# Altium schematic symbol library ADPL_Project.SCHLIB: 18 symbols
Pins are listed as number, name and electrical type; pins without a type are passive.

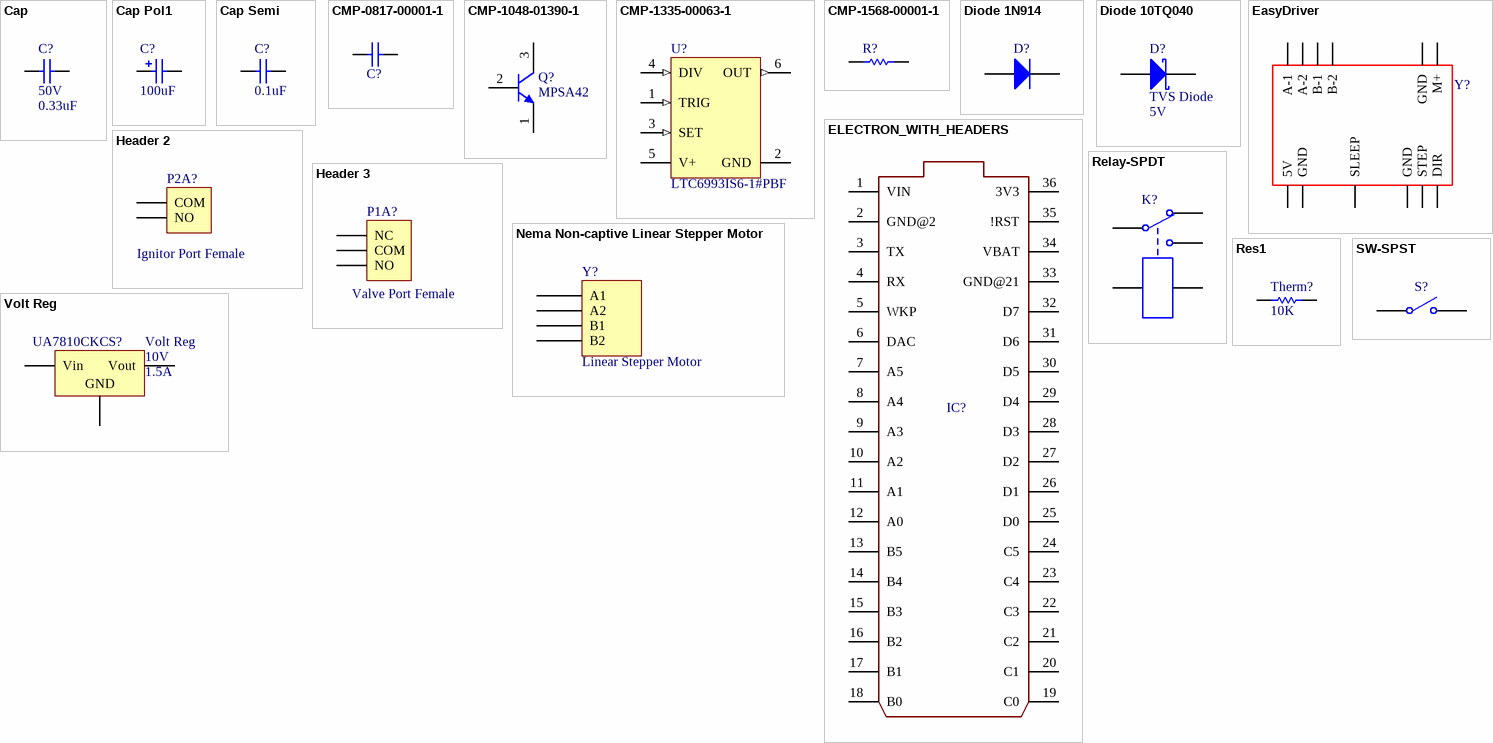
[diagram p0: symbols Cap to Volt Reg]

## Cap
designator C?, comment 50V  value 0.33uF
Capacitor; Published: 8-Jun-2000; LatestRevisionDate: 17-Jul-2002; LatestRevisionNote: Re-released for DXP Platform.; PackageReference: RAD-0.3; Publisher: Altium Limited; PackageDescription: Radial Cap, Thru-Hole; 2 Leads; 0.3 in Pin Spacing
footprint RAD-0.3 (Radial Cap, Thru-Hole; 2 Leads; 0.3 in Pin Spacing)
simulation model CAP (Capacitor)
signal-integrity model Cap
pins: 1, 2

## Cap Pol1
designator C?, comment value 100uF  (hidden comment: Cap)
Polarized Capacitor (Radial); Voltage Rating: 25V; Published: 8-Jun-2000; LatestRevisionDate: 17-Jul-2002; LatestRevisionNote: Re-released for DXP Platform.; PackageReference: RB7.6-15; Publisher: Altium Limited; PackageDescription: Polarized Capacitor (Radial); 2 Leads
footprint RB7.6-15 (Polarized Capacitor (Radial); 2 Leads)
simulation model CAP (Capacitor)
signal-integrity model Cap Pol
pins: 1, 2
1 alternate drawing of the same symbol

## Cap Semi
designator C?, comment value 0.1uF  (hidden comment: Cap)
Capacitor (Semiconductor SIM Model); Part#: 581-SA111E104MAR; Voltage Rating: 100V; Published: 8-Jun-2000; LatestRevisionDate: 29-May-2009; LatestRevisionNote: IPC-7351 Footprint Added.; PackageReference: C1206; Publisher: Altium Limited; PackageDescription: Chip Capacitor
footprint C1206 (Chip Capacitor, Body 3.2x1.6mm, IPC High Density)
footprint 0402 (Chip Capacitor, Body 1.0x0.5mm, IPC High Density)
footprint C2512 (Chip Capacitor, Body 2.54x1.27mm, IPC High Density)
footprint 1608[0603] (Chip Capacitor, Body 1.6x0.8mm, IPC High Density)
footprint C1210 (Chip Capacitor, Body 3.2x2.5mm, IPC High Density)
simulation model CAP (Semiconductor Capacitor)
signal-integrity model Cap Semi
pins: 1, 2

## CMP-0817-00001-1
designator C?, comment GRM55DR73A104KW01L  (value not drawn)
Chip Monolithic Ceramic Capacitor, General Purpose Product, 0.1 uF, 1000 V, +/- 10%, -55 to 125 degC, 5.7 x 5.0 x 2.0 mm SMD, Tape; Manufacturer: Murata; Rated Voltage: 1000 V; Capacitance Tolerance: +/- 10%; Capacitance: 0.1uF; Packaging: Tape; Height Dimension: 2.0 mm; PartNumber: GRM55DR73A104KW01L; PackageVersion: Sep-13; DatasheetVersion: Sep-13; ComponentLink1URL: http://www.murata.com/; ComponentLink3URL: http://www.murata.com/products/catalog/pdf/c02e.pdf; PackageDescription: Chip Capacitor, Body 5.7 x 5.0 mm, Height 2.0 mm; ComponentLink2Description: Datasheet; ComponentLink2URL: http://www.murata.com/products/catalog/pdf/c02e.pdf; PackageReference: MURA-GRM-55D; ComponentLink3Description: Package Specification; ComponentLink1Description: Manufacturer URL; Operating Temperature Range: -55 to 125 degC; Mounting Technology: Surface Mount; Chip Dimensions (L x W): 5.7 x 5.0 mm
footprint MURA-GRM-55D_V (Chip Capacitor, Body 5.7x5.0mm, Height 2.0mm, Reflow)
pins: 1, 2

## CMP-1048-01390-1
designator Q?, comment MPSA42
High Voltage Transistor, NPN Silicon, 3-Pin TO-92, Bulk Box; Manufacturer: On Semiconductor; fT Min (MHz): 50; Note1: 0; IC Continuous (A): 0.5; ComponentLink3Description: Package Specification; PackageReference: TO-92-3-29-11_AM_SL; Packing: Bulk Box; ComponentLink1URL: http://www.onsemi.com/; PackageDescription: 3-Pin Transistor Outline, Body 4.825 x 3.685 mm, Pitch 1.27 mm; Mounting Technology: Through Hole; RoHS: FALSE; DatasheetVersion: Rev. 8; PackageVersion: Rev. AM; ComponentLink2Description: Datasheet; ComponentLink1Description: Manufacturer URL; ComponentLink2URL: http://www.onsemi.cn/pub_link/Collateral/MPSA42-D.PDF; ComponentLink3URL: http://www.onsemi.cn/pub_link/Collateral/2N6426-D.PDF; Polarity: NPN; PartNumber: MPSA42
footprint ONSC-TO-92-3-29-11 (TO, 3-Leads, Body Dia 4.7mm, Pitch 1.27mm)
pins: 1 E, 2 B, 3 C

## CMP-1335-00063-1
designator U?, comment LTC6993IS6-1#PBF
TimerBlox: Monostable Pulse Generator (One Shot), 2.25 to 5.5 V, -40 to 85 degC, 6-Pin TSOT-23 (S6), RoHS; Manufacturer: Linear Technology; RSET: 800 KOhm Max.; VSET: 0.97 to 1.03 V; tWIDTH: 5 ns Typ.; Mounting Technology: Surface Mount; ComponentLink2URL: http://cds.linear.com/docs/en/datasheet/69931234fb.pdf; ComponentLink1URL: http://www.linear.com/; RoHS: TRUE; PartNumber: LTC6993IS6-1#PBF; Temperature Range: -40 to 85 degC; ComponentLink3Description: Package Specification; DatasheetVersion: Rev. B; PackageDescription: 6-Pin Small Out-Line Transistor, Body 2.9 x 1.625 mm, Pitch 0.95 mm; ComponentLink2Description: Datasheet; V+: 2.25 to 5.5 V; PackageVersion: Jun-10; ComponentLink3URL: http://cds.linear.com/docs/en/packaging/SOT_6_05-08-1636.pdf; ComponentLink1Description: Manufacturer URL
footprint LT-S6-6-TSOT-23_M (SOT23, 6-Leads, Body 2.90x1.63mm, Pitch 0.95mm, IPC Low Density)
footprint LT-S6-6-TSOT-23_L (SOT23, 6-Leads, Body 2.90x1.63mm, Pitch 0.95mm, IPC High Density)
footprint LT-S6-6-TSOT-23_N (SOT23, 6-Leads, Body 2.90x1.63mm, Pitch 0.95mm, IPC Medium Density)
pins: 1 TRIG (in) "Trigger Input. Depending on the version, a rising orfalling edge on TRIGwill initiate the output pulse.", 2 GND (power) "Ground. Tie to a lowinductance ground plane for best performance.", 3 SET (in) "Pulse Width Setting Input. The voltage on the SET pin (VSET) is regulated to 1V above GND. The amount of current sourced from the SET pin (ISET) programs the master oscillator frequency", 4 DIV (in) "Programmable Divider and Polarity Input. The DIV pin voltage (VDIV) is internally converted into a 4-bit result (DIVCODE). VDIV may be generated by a resistor divider between V+ and GND. Use 1% resistors to ensure an accurate result. The DIV pin and resi", 5 V+ (power) "SupplyVoltage (2.25Vto 5.5V). This supply should be kept free from noise and ripple. It should be bypassed directly to the GND pin with a 0.1uF capacitor.", 6 OUT (out) "Output. The OUT pin swings from GND to V+ with an output resistance of approximately 30Ohm. When driving an LED or other low impedance load a series output resistor should be used to limit source/sink current to 20mA."

## CMP-1568-00001-1
designator R?, comment RC0805JR-071KL  (value not drawn)
RES SMD 1K OHM 5% 1/8W 0805; PartNumber: RC0805FR-074K7L; Packing: Tape and Reel; Power: 0.125 W; PackageDescription: 2-Pin Surface Mount Device, Body 2 x 1.25 mm; Tolerance: ±5%; ComponentLink2URL: http://www.yageo.com/documents/recent/PYu-RC_Group_51_RoHS_L-3.pdf; Temperature Min: -55 degC; Mounting Technology: Surface Mount; ComponentLink1URL: http://www.yageo.com/NewPortal/_en/index.jsp; Resistance: 1k; Temperature Max: 155 degC; ComponentLink2Description: Datasheet; DatasheetVersion: Rev. 3; RoHS: TRUE; ComponentLink1Description: Manufacturer URL
footprint YAGO-RC0805_M (Chip Resistor, 2-Leads, Body 2.00x1.25mm, IPC Low Density)
footprint YAGO-RC0805_N (Chip Resistor, 2-Leads, Body 2.00x1.25mm, IPC Medium Density)
footprint YAGO-RC0805_L (Chip Resistor, 2-Leads, Body 2.00x1.25mm, IPC High Density)
pins: 1, 2

## Diode 1N914
designator D?, comment 1N914  (value not drawn)
High Conductance Fast Diode; Published: 8-Jun-2000; LatestRevisionDate: 17-Jul-2002; LatestRevisionNote: Re-released for DXP Platform.; DatasheetVersion: 1997; PackageReference: DO-35; Publisher: Altium Limited; PackageDescription: Diode, Axial; Body 3.8 x 1.9 mm (LxDia. max), Lead Dia. 0.53 mm (max); Code_JEDEC: DO-204-AH; ComponentLink1Description: Manufacturer Link; ComponentLink1URL: http://www.fairchildsemi.com/; ComponentLink2Description: Datasheet; ComponentLink2URL: http://www.fairchildsemi.com/ds/1N%2F1N4448.pdf
footprint DO-35 (Diode, Axial; Body 3.8 x 1.9 mm (LxDia. max), Lead Dia. 0.53 mm (max))
simulation model 1N914 (DIODE)
signal-integrity model 1N914
pins: 1 A, 2 K

## Diode 10TQ040
designator D?, comment TVS Diode  Working Voltage: 5V
TVS Diode - Birectional; Part#: SA5.0CA; Note: Terminal 2 is the TAB and is electrically connected to the cathode; Clamping voltage: 9.6V; Published: 8-Jun-2000; LatestRevisionDate: 17-Jul-2002; LatestRevisionNote: Re-released for DXP Platform.; DatasheetVersion: PD-2.057B; PackageVersion: Feb-1998; PackageReference: TO-220AC; Publisher: Altium Limited; PackageDescription: TO, Thru-Hole, Vertical, Heatsink Mounted; 3 In-Line Leads (1 Absent); Pitch 2.54 mm; ComponentLink1Description: Manufacturer Link; ComponentLink1URL: http://www.irf.com/
footprint TO-220AC (TO, Thru-Hole, Vertical, Heatsink Mounted; 3 In-Line Leads (1 Absent); Pitch 2.54 mm)
simulation model 10TQ040 (DIODE)
pins: 1 K, 3 A

## EasyDriver
designator Y?, comment 105990027  (value not drawn)
EASY DRIVER STEPPER MOTOR DRIVER; Manufacturer: Seeed Technology Co.; Expanded Description: A3967 - Power Management, Motor Control, Stepper Evaluation Board; Mounting Technology: Header; PartNumber: 105990027; DigiKey Part #: 1597-1403-ND
pins: ?1 GND, ?2 STEP, ?3 DIR, ?4 SLEEP, ?5 5V, ?6 GND, ?7 M+, ?8 GND, ?9 A-1, ?10 A-2, ?11 B-1, ?12 B-2

## ELECTRON_WITH_HEADERS
designator IC?, comment Particle Electron  (value not drawn)
footprint ELECTRON
pins: 1 VIN (power), 2 GND@2 (power), 3 TX, 4 RX, 5 WKP, 6 DAC, 7 A5, 8 A4, 9 A3, 10 A2, 11 A1, 12 A0, 13 B5, 14 B4, 15 B3, 16 B2, 17 B1, 18 B0, 19 C0, 20 C1, 21 C2, 22 C3, 23 C4, 24 C5, 25 D0, 26 D1, 27 D2, 28 D3, 29 D4, 30 D5, 31 D6, 32 D7, 33 GND@21 (power), 34 VBAT (power), 35 !RST, 36 3V3 (power)

## Header 2
designator P2A?, comment Ignitor Port Female
Header, 2-Pin; Aaron's Comment: 1.5V, 280-320mA; LatestRevisionDate: 17-Jul-2002; LatestRevisionNote: Re-released for DXP Platform.; Publisher: Altium Limited
signal-integrity model Connector
pins: 1 COM, 2 NO

## Header 3
designator P1A?, comment Valve Port Female
Header, 3-Pin; Part#: CWX-15Q, CR-02; LatestRevisionDate: 17-Jul-2002; LatestRevisionNote: Re-released for DXP Platform.; Publisher: Altium Limited
signal-integrity model Connector
pins: 1 NC, 2 COM, 3 NO

## Nema Non-captive Linear Stepper Motor
designator Y?, comment Linear Stepper Motor
This is a linear stepper motor which named Nema 23 Non-captive linear actuator, it was composed of 56mm 2A Nema 23 stepper motor and 150mm length Tr11x2 linear screw.; Part Number: 23LS22-2004N-150T; Rated Current: 2.0A; 24-36V: Recommended Voltage; ComponentLink1Description: Manufacturer URL; ComponentLink2URL: http://industrial.panasonic.com/www-data/pdf/AEA5000/AEA5000CE4.pdf; ComponentLink2Description: Datasheet; ComponentLink1URL: http://www.omc-stepperonline.com/nema-23-noncaptive-linear-stepper-motor-56mm-body-150mm-lead-screw-t11-x-2-p-150.html
pins: A1, A2, B1, B2

## Relay-SPDT
designator K?  (value not drawn)
Single-Pole Dual-Throw Relay; Part Number: SRD12SLA; Contact Capacity: 10A; Inductive Load: 5A; Published: 24-Mar-1999; LatestRevisionDate: 17-Jul-2002; LatestRevisionNote: Re-released for DXP Platform.; PackageReference: MODULE5B; Publisher: Altium Limited
simulation model SPDTRELAY (Spice Subcircuit)
pins: 1, 2, 3, 4, 5

## Res1
designator Therm?  value 10K  (hidden comment: Res1)
Resistor; Part#: Dwyer I2-1B062; Published: 8-Jun-2000; LatestRevisionDate: 17-Jul-2002; LatestRevisionNote: Re-released for DXP Platform.; PackageReference: AXIAL-0.3; Publisher: Altium Limited; PackageDescription: Axial Device, Thru-Hole; 2 Leads; 0.3 in Pin Spacing
footprint AXIAL-0.3 (Axial Device, Thru-Hole; 2 Leads; 0.3 in Pin Spacing)
simulation model RESISTOR (Resistor)
signal-integrity model Res
pins: 1, 2

## SW-SPST
designator S?  (value not drawn)
Single-Pole, Single-Throw Switch; Published: 24-Mar-1999; LatestRevisionDate: 17-Jul-2002; LatestRevisionNote: Re-released for DXP Platform.; PackageReference: SPST-2; Publisher: Altium Limited; PackageDescription: Switch; 2 Leads
footprint SPST-2 (Switch; 2 Leads)
pins: 1 COMMON, 2 NO

## Volt Reg
designator UA7810CKCS?  Voltage output: 10V  Current output: 1.5A
Voltage Regulator; Part#: UA7810CKCS; Voltage input: 12.5-28V; Published: 24-Mar-1999; LatestRevisionDate: 29-May-2009; LatestRevisionNote: IPC-7351 Footprint Added.; PackageReference: D2PAK; Publisher: Altium Limited; PackageDescription: 3-Pin Transistor Outline Package 2.54 mm Pitch, 15.1 mm Lead Span
footprint D2PAK_N (D2-PAK, 4-Leads, Body 8.8x10.4mm, Pitch 2.54mm, Lead Span 15.1mm, IPC Medium Density)
footprint D2PAK_L (D2-PAK, 4-Leads, Body 8.8x10.4mm, Pitch 2.54mm, Lead Span 15.1mm, IPC High Density)
footprint D2PAK_M (D2-PAK, 4-Leads, Body 8.8x10.4mm, Pitch 2.54mm, Lead Span 15.1mm, IPC Low Density)
pins: 1 Vin, 2 GND, 3 Vout